# Altium footprint library PCB - FUSE - KEYSTONE 3568.PCBLIB: 1 footprints
Each footprint in its own frame and in the unit in brackets; x right, y up, seen from the top. Pads: shape width x height; smd on the part's side, far side on the other; paste and mask are expansions set on the pad; w line width, h text height; cw(c..) or ccw(c..) is an arc to the next point about the centre after c.
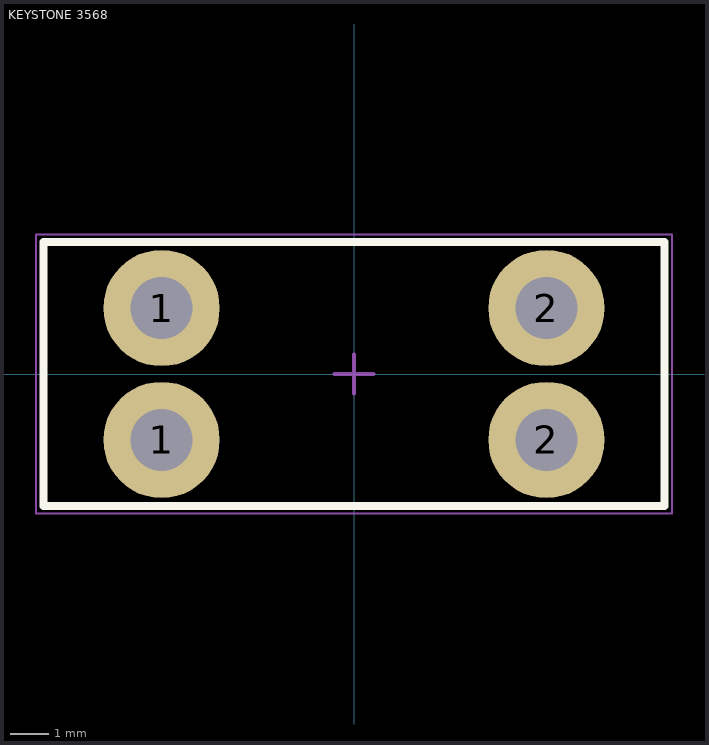
[diagram p0: the footprint, top view; thin cyan lines are the x and y axes]

## KEYSTONE 3568 [mm] "MINI PC AUTO-FUSE HOLDER"
height 7.37
pads (4):
  round 3 hole 1.6: 1(-4.96,-1.7) 1(-4.96,1.7) 2(4.96,-1.7) 2(4.96,1.7)
Top Overlay:
  lines w0.2: -8,-3.4 8,-3.4 8,3.4 -8,3.4 -8,-3.4
Mechanical 13:
  lines w0.1: -8,-3.365 8,-3.365 8,3.365 -8,3.365 -8,-3.365
Mechanical 15:
  lines w0.05: -8.2,-3.6 8.2,-3.6 8.2,3.6 -8.2,3.6 -8.2,-3.6
  lines w0.1: -0.5,0 0.5,0 ; 0,-0.5 0,0.5
3D body "Keystone - 3568.step": height 7.37, standoff -2.79, extent -8.001,-3.365 8.001,3.366